# Altium schematic symbol library TRIMMER-RES.SchLib: 1 symbol
Pins are listed as number, name and electrical type; pins without a type are passive.

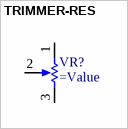
[diagram p0: symbol TRIMMER-RES]

## TRIMMER-RES
designator VR?
=Description
pins: 1 TOP, 2 TAP, 3 BOT